# EAGLE library part TOP209/210 (library TOP-Switcher)
Cost Effektiv Switcher, Off-line PWM-Switcher (0....8W)
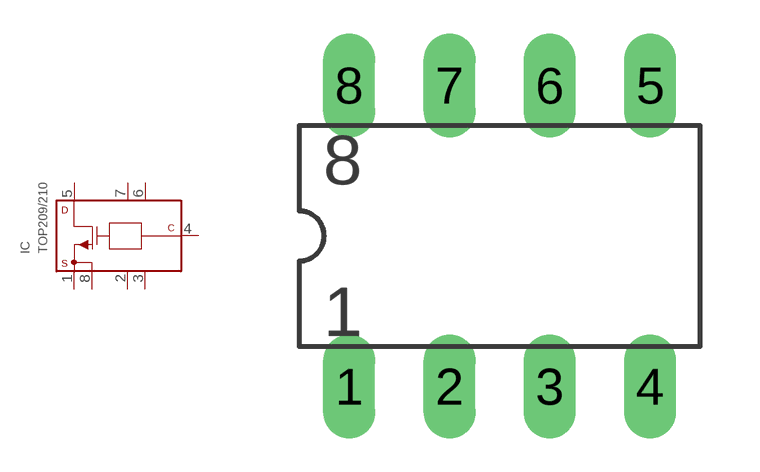
[diagram p2: symbol with the pads of DIP8; footprint DIP8]

Designator prefix IC

## TOP209/210DIP  [DIP8]
1  S1
2  NC2
3  NC3
4  C
5  D
6  NC6
7  NC7
8  S8

## Footprint DIP8 (pad centres in mm)
drill 0.813 long: 1 -3.81,-3.81; 2 -1.27,-3.81; 3 1.27,-3.81; 4 3.81,-3.81; 5 3.81,3.81; 6 1.27,3.81; 7 -1.27,3.81; 8 -3.81,3.81